# Altium footprint library VDRI30B24.PcbLib: 1 footprints
Each footprint in its own frame and in the unit in brackets; x right, y up, seen from the top. Pads: shape width x height; smd on the part's side, far side on the other; paste and mask are expansions set on the pad; w line width, h text height; cw(c..) or ccw(c..) is an arc to the next point about the centre after c.
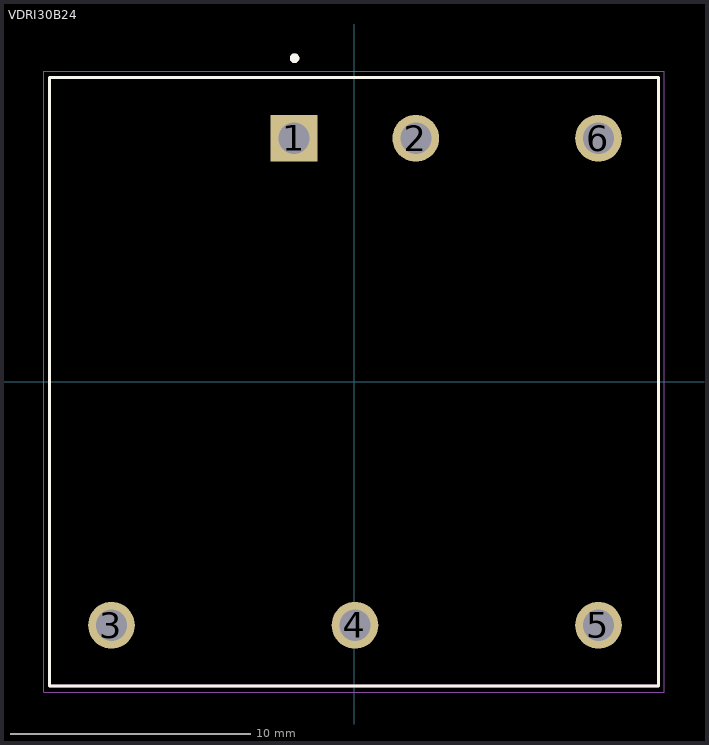
[diagram p0: the footprint, top view; thin cyan lines are the x and y axes]

## VDRI30B24 [mm]
pads (6):
  rect 1.95x1.95 hole 1.3: 1(-2.5,10.16)
  round 1.95 hole 1.3: 2(2.58,10.16) 3(-10.12,-10.16) 4(0.04,-10.16) 5(10.2,-10.16) 6(10.2,10.16)
Top Overlay:
  circle w0.2: c-2.48,13.502 r0.1
  lines w0.127: -12.7,-12.7 -12.7,12.7 12.7,12.7 12.7,-12.7 -12.7,-12.7
Mechanical 13:
  circle w0.2: c-2.48,13.502 r0.1
  lines w0.127: -12.7,-12.7 -12.7,12.7 12.7,12.7 12.7,-12.7 -12.7,-12.7
Mechanical 15:
  lines w0.05: -12.95,-12.95 -12.95,12.95 12.95,12.95 12.95,-12.95 -12.95,-12.95
3D body "step_temp.STEP": height 9.9, standoff -5.6, extent -12.7,-12.7 12.7,12.7